# EAGLE library part MAX1811 (library adafruit-MOD)
Maxim MAX1811 USB li-ion battery charger http://www.ladyada.net/library/eagle
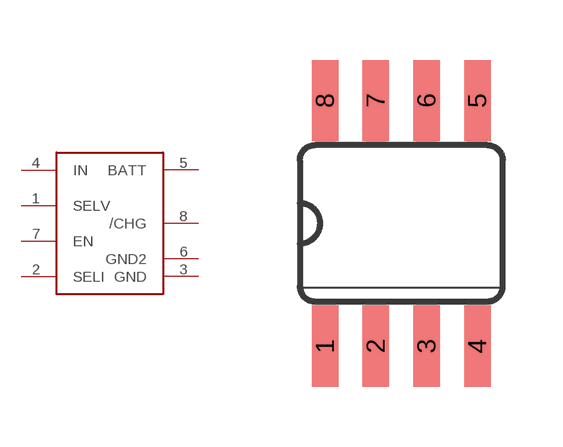
[diagram p3: symbol with the pads of SO08; footprint SO08]

Designator prefix -

## MAX1811SO8  [SO08]
1  SELV
2  SELI
3  GND
4  IN
5  BATT
6  GND2
7  EN
8  /CHG

## Footprint SO08 (pad centres in mm)
smd 0.66 x 2.032: 1 -1.905,-3.073; 2 -0.635,-3.073; 3 0.635,-3.073; 4 1.905,-3.073; 5 1.905,3.073; 6 0.635,3.073; 7 -0.635,3.073; 8 -1.905,3.073